# Altium schematic symbol library SparkFun-Connectors.SCHLIB: 365 symbols (part 2 of 8)
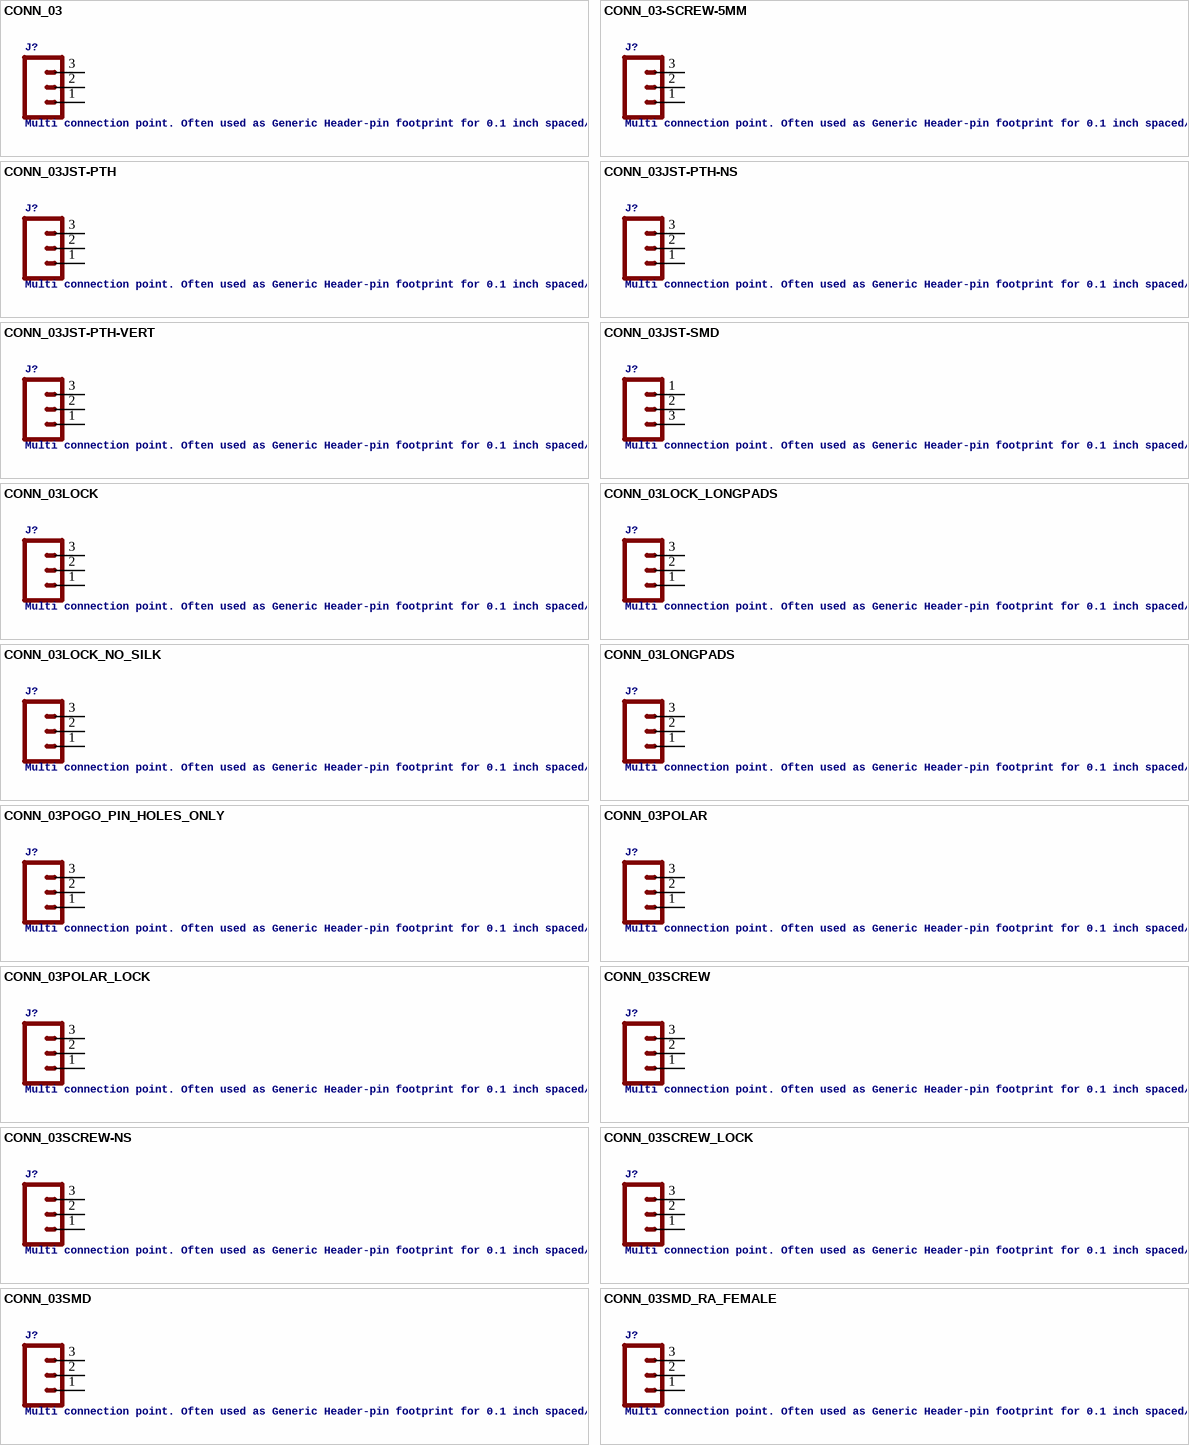
[diagram p17: symbols CONN_03 to CONN_03SMD_RA_FEMALE]

## CONN_03-SCREW-5MM
designator J?, comment Multi connection point. Often used as Generic Header-pin footprint for 0.1 inch spaced/style header connectionsOn any of the 0.1 inch spaced packages, you can populate with these: For SCREWTERMINALS and SPRING TERMINALS visit here:This device is also useful as a general connection point to wire up your design to another part of your project. Our various solder wires solder well into these plated through hole pads.Special notes:   Molex polarized connector foot print use with SKU : PRT-08232 with associated crimp pins and housings.
GateName_1: J$1; SymbolName_1: CONN_03; DeviceName: -SCREW-5MM; PROD_ID: CONN-10134; SF_SKU: PRT-08433; LibraryName: SparkFun-Connectors; DeviceSetName: CONN_03; Package: SCREWTERMINAL-5MM-3
footprint SCREWTERMINAL-5MM-3
pins: 1, 2, 3

## CONN_03JST-PTH
designator J?, comment Multi connection point. Often used as Generic Header-pin footprint for 0.1 inch spaced/style header connectionsOn any of the 0.1 inch spaced packages, you can populate with these: For SCREWTERMINALS and SPRING TERMINALS visit here:This device is also useful as a general connection point to wire up your design to another part of your project. Our various solder wires solder well into these plated through hole pads.Special notes:   Molex polarized connector foot print use with SKU : PRT-08232 with associated crimp pins and housings.
GateName_1: J$1; SymbolName_1: CONN_03; DeviceName: JST-PTH; PROD_ID: WIRE-10037; SF_ID: PRT-09915; LibraryName: SparkFun-Connectors; DeviceSetName: CONN_03; Package: JST-3-PTH
footprint JST-3-PTH
pins: 1, 2, 3

## CONN_03JST-PTH-NS
designator J?, comment Multi connection point. Often used as Generic Header-pin footprint for 0.1 inch spaced/style header connectionsOn any of the 0.1 inch spaced packages, you can populate with these: For SCREWTERMINALS and SPRING TERMINALS visit here:This device is also useful as a general connection point to wire up your design to another part of your project. Our various solder wires solder well into these plated through hole pads.Special notes:   Molex polarized connector foot print use with SKU : PRT-08232 with associated crimp pins and housings.
GateName_1: J$1; SymbolName_1: CONN_03; DeviceName: JST-PTH-NS; LibraryName: SparkFun-Connectors; DeviceSetName: CONN_03; Package: JST-3-PTH-NS
footprint JST-3-PTH-NS
pins: 1, 2, 3

## CONN_03JST-PTH-VERT
designator J?, comment Multi connection point. Often used as Generic Header-pin footprint for 0.1 inch spaced/style header connectionsOn any of the 0.1 inch spaced packages, you can populate with these: For SCREWTERMINALS and SPRING TERMINALS visit here:This device is also useful as a general connection point to wire up your design to another part of your project. Our various solder wires solder well into these plated through hole pads.Special notes:   Molex polarized connector foot print use with SKU : PRT-08232 with associated crimp pins and housings.
GateName_1: J$1; SymbolName_1: CONN_03; DeviceName: JST-PTH-VERT; PROD_ID: CONN-13230; LibraryName: SparkFun-Connectors; DeviceSetName: CONN_03; Package: JST-3-PTH-VERT
footprint JST-3-PTH-VERT
pins: 1, 2, 3

## CONN_03JST-SMD
designator J?, comment Multi connection point. Often used as Generic Header-pin footprint for 0.1 inch spaced/style header connectionsOn any of the 0.1 inch spaced packages, you can populate with these: For SCREWTERMINALS and SPRING TERMINALS visit here:This device is also useful as a general connection point to wire up your design to another part of your project. Our various solder wires solder well into these plated through hole pads.Special notes:   Molex polarized connector foot print use with SKU : PRT-08232 with associated crimp pins and housings.
GateName_1: J$1; SymbolName_1: CONN_03; DeviceName: JST-SMD; PROD_ID: CONN-12591; LibraryName: SparkFun-Connectors; DeviceSetName: CONN_03; Package: JST-3-SMD
footprint JST-3-SMD
pins: 1 3, 2, 3 1

## CONN_03LOCK
designator J?, comment Multi connection point. Often used as Generic Header-pin footprint for 0.1 inch spaced/style header connectionsOn any of the 0.1 inch spaced packages, you can populate with these: For SCREWTERMINALS and SPRING TERMINALS visit here:This device is also useful as a general connection point to wire up your design to another part of your project. Our various solder wires solder well into these plated through hole pads.Special notes:   Molex polarized connector foot print use with SKU : PRT-08232 with associated crimp pins and housings.
GateName_1: J$1; SymbolName_1: CONN_03; DeviceName: LOCK; LibraryName: SparkFun-Connectors; DeviceSetName: CONN_03; Package: 1X03_LOCK
footprint 1X03_LOCK
pins: 1, 2, 3

## CONN_03LOCK_LONGPADS
designator J?, comment Multi connection point. Often used as Generic Header-pin footprint for 0.1 inch spaced/style header connectionsOn any of the 0.1 inch spaced packages, you can populate with these: For SCREWTERMINALS and SPRING TERMINALS visit here:This device is also useful as a general connection point to wire up your design to another part of your project. Our various solder wires solder well into these plated through hole pads.Special notes:   Molex polarized connector foot print use with SKU : PRT-08232 with associated crimp pins and housings.
GateName_1: J$1; SymbolName_1: CONN_03; DeviceName: LOCK_LONGPADS; LibraryName: SparkFun-Connectors; DeviceSetName: CONN_03; Package: 1X03_LOCK_LONGPADS
footprint 1X03_LOCK_LONGPADS
pins: 1, 2, 3

## CONN_03LOCK_NO_SILK
designator J?, comment Multi connection point. Often used as Generic Header-pin footprint for 0.1 inch spaced/style header connectionsOn any of the 0.1 inch spaced packages, you can populate with these: For SCREWTERMINALS and SPRING TERMINALS visit here:This device is also useful as a general connection point to wire up your design to another part of your project. Our various solder wires solder well into these plated through hole pads.Special notes:   Molex polarized connector foot print use with SKU : PRT-08232 with associated crimp pins and housings.
GateName_1: J$1; SymbolName_1: CONN_03; DeviceName: LOCK_NO_SILK; LibraryName: SparkFun-Connectors; DeviceSetName: CONN_03; Package: 1X03_LOCK_NO_SILK
footprint 1X03_LOCK_NO_SILK
pins: 1, 2, 3

## CONN_03LONGPADS
designator J?, comment Multi connection point. Often used as Generic Header-pin footprint for 0.1 inch spaced/style header connectionsOn any of the 0.1 inch spaced packages, you can populate with these: For SCREWTERMINALS and SPRING TERMINALS visit here:This device is also useful as a general connection point to wire up your design to another part of your project. Our various solder wires solder well into these plated through hole pads.Special notes:   Molex polarized connector foot print use with SKU : PRT-08232 with associated crimp pins and housings.
GateName_1: J$1; SymbolName_1: CONN_03; DeviceName: LONGPADS; LibraryName: SparkFun-Connectors; DeviceSetName: CONN_03; Package: 1X03_LONGPADS
footprint 1X03_LONGPADS
pins: 1, 2, 3

## CONN_03POGO_PIN_HOLES_ONLY
designator J?, comment Multi connection point. Often used as Generic Header-pin footprint for 0.1 inch spaced/style header connectionsOn any of the 0.1 inch spaced packages, you can populate with these: For SCREWTERMINALS and SPRING TERMINALS visit here:This device is also useful as a general connection point to wire up your design to another part of your project. Our various solder wires solder well into these plated through hole pads.Special notes:   Molex polarized connector foot print use with SKU : PRT-08232 with associated crimp pins and housings.
GateName_1: J$1; SymbolName_1: CONN_03; DeviceName: POGO_PIN_HOLES_ONLY; LibraryName: SparkFun-Connectors; DeviceSetName: CONN_03; Package: 1X03_PP_HOLES_ONLY
footprint 1X03_PP_HOLES_ONLY
pins: 1, 2, 3

## CONN_03POLAR
designator J?, comment Multi connection point. Often used as Generic Header-pin footprint for 0.1 inch spaced/style header connectionsOn any of the 0.1 inch spaced packages, you can populate with these: For SCREWTERMINALS and SPRING TERMINALS visit here:This device is also useful as a general connection point to wire up your design to another part of your project. Our various solder wires solder well into these plated through hole pads.Special notes:   Molex polarized connector foot print use with SKU : PRT-08232 with associated crimp pins and housings.
GateName_1: J$1; SymbolName_1: CONN_03; DeviceName: POLAR; PROD_ID: CONN-08625; SF_ID: PRT-08096; LibraryName: SparkFun-Connectors; DeviceSetName: CONN_03; Package: MOLEX-1X3
footprint MOLEX-1X3
pins: 1, 2, 3

## CONN_03POLAR_LOCK
designator J?, comment Multi connection point. Often used as Generic Header-pin footprint for 0.1 inch spaced/style header connectionsOn any of the 0.1 inch spaced packages, you can populate with these: For SCREWTERMINALS and SPRING TERMINALS visit here:This device is also useful as a general connection point to wire up your design to another part of your project. Our various solder wires solder well into these plated through hole pads.Special notes:   Molex polarized connector foot print use with SKU : PRT-08232 with associated crimp pins and housings.
GateName_1: J$1; SymbolName_1: CONN_03; DeviceName: POLAR_LOCK; PROD_ID: CONN-08625; SF_ID: PRT-08096; LibraryName: SparkFun-Connectors; DeviceSetName: CONN_03; Package: MOLEX-1X3_LOCK
footprint MOLEX-1X3_LOCK
pins: 1, 2, 3

## CONN_03SCREW
designator J?, comment Multi connection point. Often used as Generic Header-pin footprint for 0.1 inch spaced/style header connectionsOn any of the 0.1 inch spaced packages, you can populate with these: For SCREWTERMINALS and SPRING TERMINALS visit here:This device is also useful as a general connection point to wire up your design to another part of your project. Our various solder wires solder well into these plated through hole pads.Special notes:   Molex polarized connector foot print use with SKU : PRT-08232 with associated crimp pins and housings.
GateName_1: J$1; SymbolName_1: CONN_03; DeviceName: SCREW; PROD_ID: CONN-08288; SF_ID: PRT-08235; LibraryName: SparkFun-Connectors; DeviceSetName: CONN_03; Package: SCREWTERMINAL-3.5MM-3
footprint SCREWTERMINAL-3.5MM-3
pins: 1, 2, 3

## CONN_03SCREW-NS
designator J?, comment Multi connection point. Often used as Generic Header-pin footprint for 0.1 inch spaced/style header connectionsOn any of the 0.1 inch spaced packages, you can populate with these: For SCREWTERMINALS and SPRING TERMINALS visit here:This device is also useful as a general connection point to wire up your design to another part of your project. Our various solder wires solder well into these plated through hole pads.Special notes:   Molex polarized connector foot print use with SKU : PRT-08232 with associated crimp pins and housings.
GateName_1: J$1; SymbolName_1: CONN_03; DeviceName: SCREW-NS; LibraryName: SparkFun-Connectors; DeviceSetName: CONN_03; Package: SCREWTERMINAL-3.5MM-3-NS
footprint SCREWTERMINAL-3.5MM-3-NS
pins: 1, 2, 3

## CONN_03SCREW_LOCK
designator J?, comment Multi connection point. Often used as Generic Header-pin footprint for 0.1 inch spaced/style header connectionsOn any of the 0.1 inch spaced packages, you can populate with these: For SCREWTERMINALS and SPRING TERMINALS visit here:This device is also useful as a general connection point to wire up your design to another part of your project. Our various solder wires solder well into these plated through hole pads.Special notes:   Molex polarized connector foot print use with SKU : PRT-08232 with associated crimp pins and housings.
GateName_1: J$1; SymbolName_1: CONN_03; DeviceName: SCREW_LOCK; PROD_ID: CONN-08288; SF_ID: PRT-08235; LibraryName: SparkFun-Connectors; DeviceSetName: CONN_03; Package: SCREWTERMINAL-3.5MM-3_LOCK.007S
footprint SCREWTERMINAL-3.5MM-3_LOCK.007S
pins: 1, 2, 3

## CONN_03SMD
designator J?, comment Multi connection point. Often used as Generic Header-pin footprint for 0.1 inch spaced/style header connectionsOn any of the 0.1 inch spaced packages, you can populate with these: For SCREWTERMINALS and SPRING TERMINALS visit here:This device is also useful as a general connection point to wire up your design to another part of your project. Our various solder wires solder well into these plated through hole pads.Special notes:   Molex polarized connector foot print use with SKU : PRT-08232 with associated crimp pins and housings.
GateName_1: J$1; SymbolName_1: CONN_03; DeviceName: SMD; LibraryName: SparkFun-Connectors; DeviceSetName: CONN_03; Package: 1X03-1MM-RA
footprint 1X03-1MM-RA
pins: 1, 2, 3

## CONN_03SMD_RA_FEMALE
designator J?, comment Multi connection point. Often used as Generic Header-pin footprint for 0.1 inch spaced/style header connectionsOn any of the 0.1 inch spaced packages, you can populate with these: For SCREWTERMINALS and SPRING TERMINALS visit here:This device is also useful as a general connection point to wire up your design to another part of your project. Our various solder wires solder well into these plated through hole pads.Special notes:   Molex polarized connector foot print use with SKU : PRT-08232 with associated crimp pins and housings.
GateName_1: J$1; SymbolName_1: CONN_03; DeviceName: SMD_RA_FEMALE; PROD_ID: CONN-10926; LibraryName: SparkFun-Connectors; DeviceSetName: CONN_03; Package: 1X03_SMD_RA_FEMALE
footprint 1X03_SMD_RA_FEMALE
pins: 1, 2, 3

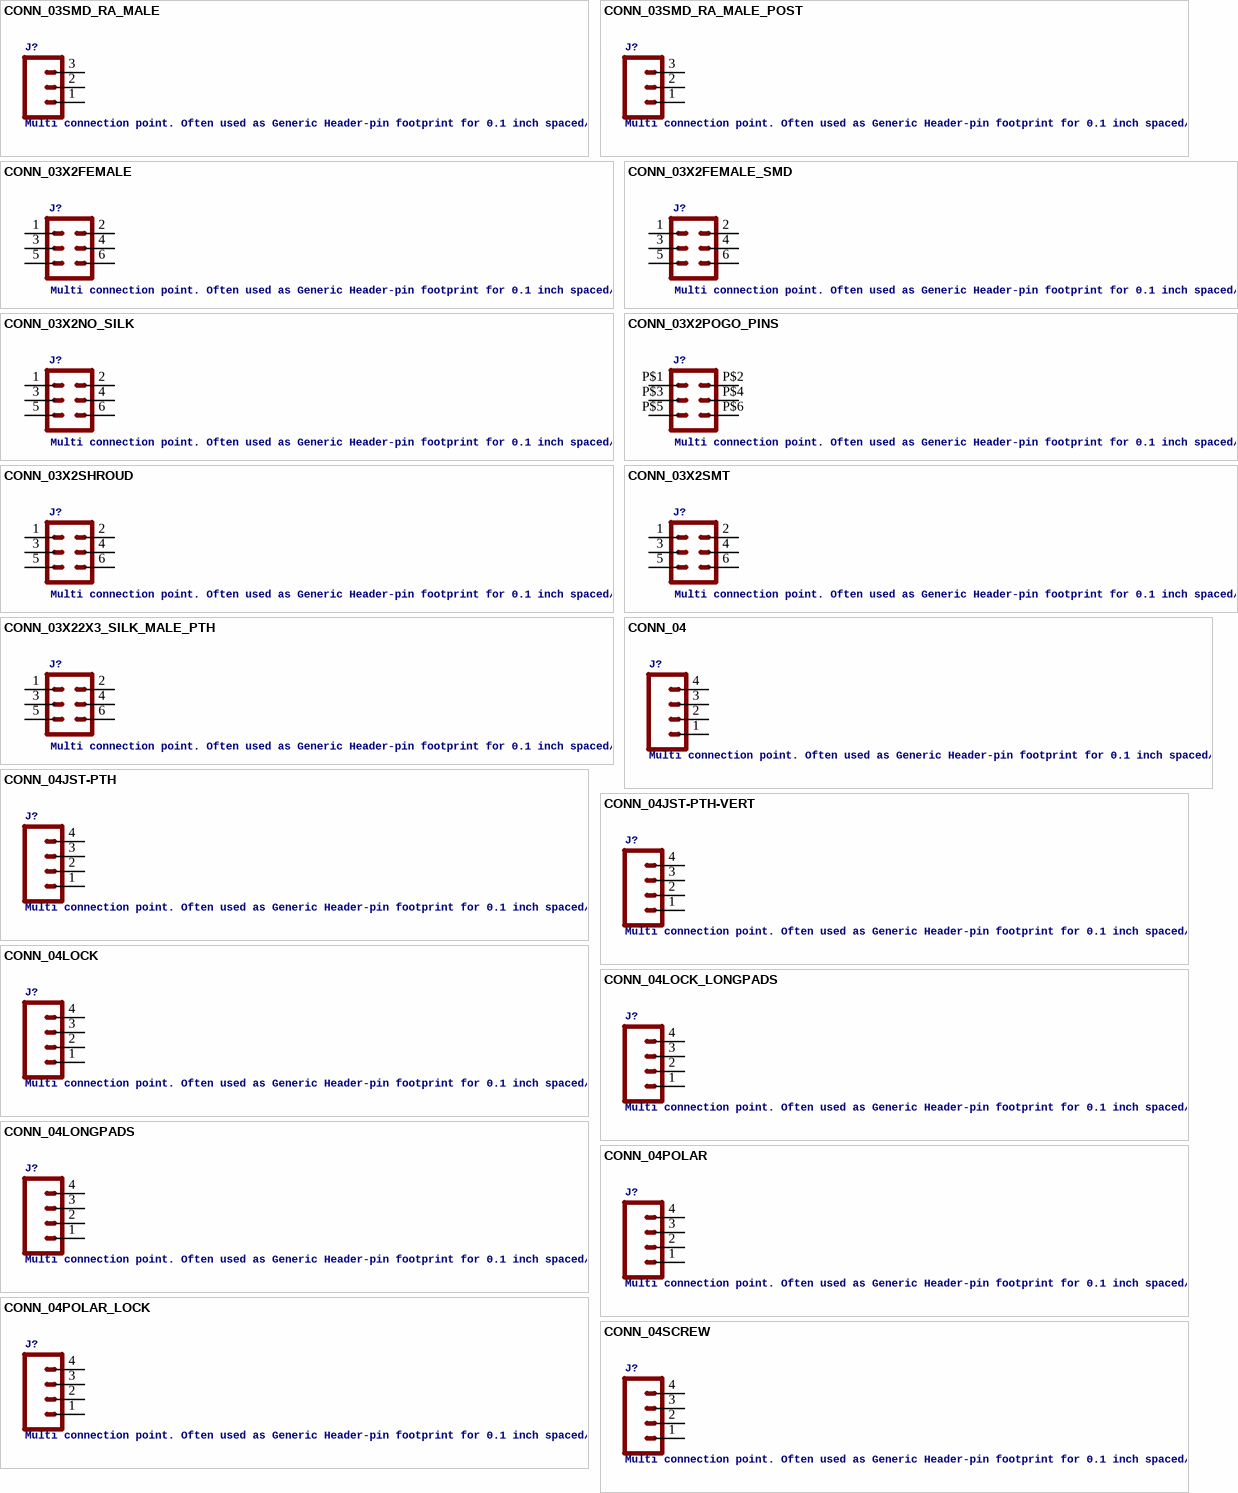
[diagram p4: symbols CONN_03SMD_RA_MALE to CONN_04SCREW]

## CONN_03SMD_RA_MALE
designator J?, comment Multi connection point. Often used as Generic Header-pin footprint for 0.1 inch spaced/style header connectionsOn any of the 0.1 inch spaced packages, you can populate with these: For SCREWTERMINALS and SPRING TERMINALS visit here:This device is also useful as a general connection point to wire up your design to another part of your project. Our various solder wires solder well into these plated through hole pads.Special notes:   Molex polarized connector foot print use with SKU : PRT-08232 with associated crimp pins and housings.
GateName_1: J$1; SymbolName_1: CONN_03; DeviceName: SMD_RA_MALE; PROD_ID: CONN-10925; LibraryName: SparkFun-Connectors; DeviceSetName: CONN_03; Package: 1X03_SMD_RA_MALE
footprint 1X03_SMD_RA_MALE
pins: 1, 2, 3

## CONN_03SMD_RA_MALE_POST
designator J?, comment Multi connection point. Often used as Generic Header-pin footprint for 0.1 inch spaced/style header connectionsOn any of the 0.1 inch spaced packages, you can populate with these: For SCREWTERMINALS and SPRING TERMINALS visit here:This device is also useful as a general connection point to wire up your design to another part of your project. Our various solder wires solder well into these plated through hole pads.Special notes:   Molex polarized connector foot print use with SKU : PRT-08232 with associated crimp pins and housings.
GateName_1: J$1; SymbolName_1: CONN_03; DeviceName: SMD_RA_MALE_POST; LibraryName: SparkFun-Connectors; DeviceSetName: CONN_03; Package: 1X03_SMD_RA_MALE_POST
footprint 1X03_SMD_RA_MALE_POST
pins: 1, 2, 3

## CONN_03X2FEMALE
designator J?, comment Multi connection point. Often used as Generic Header-pin footprint for 0.1 inch spaced/style header connectionsYou can populate with any combo of single row headers, but if you'd like an exact match, check these:On any of the 0.1 inch spaced packages, you can populate with these:Special note: the shrouded connector mates well with our 3x2 ribbon cables:
GateName_1: G$1; SymbolName_1: CONN_03X2; DeviceName: FEMALE; PROD_ID: CONN-11566; LibraryName: SparkFun-Connectors; DeviceSetName: CONN_03X2; Package: 2X3
footprint 2X3
pins: 1, 2, 3, 4, 5, 6

## CONN_03X2FEMALE_SMD
designator J?, comment Multi connection point. Often used as Generic Header-pin footprint for 0.1 inch spaced/style header connectionsYou can populate with any combo of single row headers, but if you'd like an exact match, check these:On any of the 0.1 inch spaced packages, you can populate with these:Special note: the shrouded connector mates well with our 3x2 ribbon cables:
GateName_1: G$1; SymbolName_1: CONN_03X2; DeviceName: FEMALE_SMD; PROD_ID: CONN-11290; LibraryName: SparkFun-Connectors; DeviceSetName: CONN_03X2; Package: 2X3_SMD
footprint 2X3_SMD
pins: 1, 2, 3, 4, 5, 6

## CONN_03X2NO_SILK
designator J?, comment Multi connection point. Often used as Generic Header-pin footprint for 0.1 inch spaced/style header connectionsYou can populate with any combo of single row headers, but if you'd like an exact match, check these:On any of the 0.1 inch spaced packages, you can populate with these:Special note: the shrouded connector mates well with our 3x2 ribbon cables:
GateName_1: G$1; SymbolName_1: CONN_03X2; DeviceName: NO_SILK; LibraryName: SparkFun-Connectors; DeviceSetName: CONN_03X2; Package: 2X3-NS
footprint 2X3-NS
pins: 1, 2, 3, 4, 5, 6

## CONN_03X2POGO_PINS
designator J?, comment Multi connection point. Often used as Generic Header-pin footprint for 0.1 inch spaced/style header connectionsYou can populate with any combo of single row headers, but if you'd like an exact match, check these:On any of the 0.1 inch spaced packages, you can populate with these:Special note: the shrouded connector mates well with our 3x2 ribbon cables:
GateName_1: G$1; SymbolName_1: CONN_03X2; DeviceName: POGO_PINS; PROD_ID: HW-11044; LibraryName: SparkFun-Connectors; DeviceSetName: CONN_03X2; Package: 2X3_POGO
footprint 2X3_POGO
pins: P$1 1, P$2 2, P$3 3, P$4 4, P$5 5, P$6 6

## CONN_03X2SHROUD
designator J?, comment Multi connection point. Often used as Generic Header-pin footprint for 0.1 inch spaced/style header connectionsYou can populate with any combo of single row headers, but if you'd like an exact match, check these:On any of the 0.1 inch spaced packages, you can populate with these:Special note: the shrouded connector mates well with our 3x2 ribbon cables:
GateName_1: G$1; SymbolName_1: CONN_03X2; DeviceName: SHROUD; PROD_ID: CONN-10681; SF_ID: PRT_10877; LibraryName: SparkFun-Connectors; DeviceSetName: CONN_03X2; Package: 2X3-SHROUDED
footprint 2X3-SHROUDED
pins: 1, 2, 3, 4, 5, 6

## CONN_03X2SMT
designator J?, comment Multi connection point. Often used as Generic Header-pin footprint for 0.1 inch spaced/style header connectionsYou can populate with any combo of single row headers, but if you'd like an exact match, check these:On any of the 0.1 inch spaced packages, you can populate with these:Special note: the shrouded connector mates well with our 3x2 ribbon cables:
GateName_1: G$1; SymbolName_1: CONN_03X2; DeviceName: SMT; PROD_ID: CONN-11415; LibraryName: SparkFun-Connectors; DeviceSetName: CONN_03X2; Package: 2X3_SMT_POSTS
footprint 2X3_SMT_POSTS
pins: 1, 2, 3, 4, 5, 6

## CONN_03X22X3_SILK_MALE_PTH
designator J?, comment Multi connection point. Often used as Generic Header-pin footprint for 0.1 inch spaced/style header connectionsYou can populate with any combo of single row headers, but if you'd like an exact match, check these:On any of the 0.1 inch spaced packages, you can populate with these:Special note: the shrouded connector mates well with our 3x2 ribbon cables:
GateName_1: G$1; SymbolName_1: CONN_03X2; DeviceName: 2X3_SILK_MALE_PTH; PROD_ID: CONN-09701; LibraryName: SparkFun-Connectors; DeviceSetName: CONN_03X2; Package: 2X3
footprint 2X3
pins: 1, 2, 3, 4, 5, 6

## CONN_04
designator J?, comment Multi connection point. Often used as Generic Header-pin footprint for 0.1 inch spaced/style header connectionsOn any of the 0.1 inch spaced packages, you can populate with these: For SCREWTERMINALS and SPRING TERMINALS visit here:This device is also useful as a general connection point to wire up your design to another part of your project. Our various solder wires solder well into these plated through hole pads.Special notes:  Molex polarized connector foot print use with SKU : PRT-08231 with associated crimp pins and housings. 1MM SMD Version SKU: PRT-10208
GateName_1: G$1; SymbolName_1: CONN_04; PROD_ID: CONN-09696; LibraryName: SparkFun-Connectors; DeviceSetName: CONN_04; Package: 1X04
footprint 1X04
pins: 1, 2, 3, 4

## CONN_04JST-PTH
designator J?, comment Multi connection point. Often used as Generic Header-pin footprint for 0.1 inch spaced/style header connectionsOn any of the 0.1 inch spaced packages, you can populate with these: For SCREWTERMINALS and SPRING TERMINALS visit here:This device is also useful as a general connection point to wire up your design to another part of your project. Our various solder wires solder well into these plated through hole pads.Special notes:  Molex polarized connector foot print use with SKU : PRT-08231 with associated crimp pins and housings. 1MM SMD Version SKU: PRT-10208
GateName_1: G$1; SymbolName_1: CONN_04; DeviceName: JST-PTH; PROD_ID: WIRE-13531; SF_ID: PRT-09916; LibraryName: SparkFun-Connectors; DeviceSetName: CONN_04; Package: JST-4-PTH
footprint JST-4-PTH
pins: 1, 2, 3, 4

## CONN_04JST-PTH-VERT
designator J?, comment Multi connection point. Often used as Generic Header-pin footprint for 0.1 inch spaced/style header connectionsOn any of the 0.1 inch spaced packages, you can populate with these: For SCREWTERMINALS and SPRING TERMINALS visit here:This device is also useful as a general connection point to wire up your design to another part of your project. Our various solder wires solder well into these plated through hole pads.Special notes:  Molex polarized connector foot print use with SKU : PRT-08231 with associated crimp pins and housings. 1MM SMD Version SKU: PRT-10208
GateName_1: G$1; SymbolName_1: CONN_04; DeviceName: JST-PTH-VERT; PROD_ID: CONN-13251; LibraryName: SparkFun-Connectors; DeviceSetName: CONN_04; Package: JST-4-PTH-VERT
footprint JST-4-PTH-VERT
pins: 1, 2, 3, 4

## CONN_04LOCK
designator J?, comment Multi connection point. Often used as Generic Header-pin footprint for 0.1 inch spaced/style header connectionsOn any of the 0.1 inch spaced packages, you can populate with these: For SCREWTERMINALS and SPRING TERMINALS visit here:This device is also useful as a general connection point to wire up your design to another part of your project. Our various solder wires solder well into these plated through hole pads.Special notes:  Molex polarized connector foot print use with SKU : PRT-08231 with associated crimp pins and housings. 1MM SMD Version SKU: PRT-10208
GateName_1: G$1; SymbolName_1: CONN_04; DeviceName: LOCK; PROD_ID: CONN-09696; LibraryName: SparkFun-Connectors; DeviceSetName: CONN_04; Package: 1X04_LOCK
footprint 1X04_LOCK
pins: 1, 2, 3, 4

## CONN_04LOCK_LONGPADS
designator J?, comment Multi connection point. Often used as Generic Header-pin footprint for 0.1 inch spaced/style header connectionsOn any of the 0.1 inch spaced packages, you can populate with these: For SCREWTERMINALS and SPRING TERMINALS visit here:This device is also useful as a general connection point to wire up your design to another part of your project. Our various solder wires solder well into these plated through hole pads.Special notes:  Molex polarized connector foot print use with SKU : PRT-08231 with associated crimp pins and housings. 1MM SMD Version SKU: PRT-10208
GateName_1: G$1; SymbolName_1: CONN_04; DeviceName: LOCK_LONGPADS; PROD_ID: CONN-09696; LibraryName: SparkFun-Connectors; DeviceSetName: CONN_04; Package: 1X04_LOCK_LONGPADS
footprint 1X04_LOCK_LONGPADS
pins: 1, 2, 3, 4

## CONN_04LONGPADS
designator J?, comment Multi connection point. Often used as Generic Header-pin footprint for 0.1 inch spaced/style header connectionsOn any of the 0.1 inch spaced packages, you can populate with these: For SCREWTERMINALS and SPRING TERMINALS visit here:This device is also useful as a general connection point to wire up your design to another part of your project. Our various solder wires solder well into these plated through hole pads.Special notes:  Molex polarized connector foot print use with SKU : PRT-08231 with associated crimp pins and housings. 1MM SMD Version SKU: PRT-10208
GateName_1: G$1; SymbolName_1: CONN_04; DeviceName: LONGPADS; PROD_ID: CONN-09696; LibraryName: SparkFun-Connectors; DeviceSetName: CONN_04; Package: 1X04_LONGPADS
footprint 1X04_LONGPADS
pins: 1, 2, 3, 4

## CONN_04POLAR
designator J?, comment Multi connection point. Often used as Generic Header-pin footprint for 0.1 inch spaced/style header connectionsOn any of the 0.1 inch spaced packages, you can populate with these: For SCREWTERMINALS and SPRING TERMINALS visit here:This device is also useful as a general connection point to wire up your design to another part of your project. Our various solder wires solder well into these plated through hole pads.Special notes:  Molex polarized connector foot print use with SKU : PRT-08231 with associated crimp pins and housings. 1MM SMD Version SKU: PRT-10208
GateName_1: G$1; SymbolName_1: CONN_04; DeviceName: POLAR; PROD_ID: CONN-08186; LibraryName: SparkFun-Connectors; DeviceSetName: CONN_04; Package: MOLEX-1X4; SF_ID: PRT-08231
footprint MOLEX-1X4
pins: 1, 2, 3, 4

## CONN_04POLAR_LOCK
designator J?, comment Multi connection point. Often used as Generic Header-pin footprint for 0.1 inch spaced/style header connectionsOn any of the 0.1 inch spaced packages, you can populate with these: For SCREWTERMINALS and SPRING TERMINALS visit here:This device is also useful as a general connection point to wire up your design to another part of your project. Our various solder wires solder well into these plated through hole pads.Special notes:  Molex polarized connector foot print use with SKU : PRT-08231 with associated crimp pins and housings. 1MM SMD Version SKU: PRT-10208
GateName_1: G$1; SymbolName_1: CONN_04; DeviceName: POLAR_LOCK; PROD_ID: CONN-08186; LibraryName: SparkFun-Connectors; DeviceSetName: CONN_04; Package: MOLEX-1X4_LOCK; SF_ID: PRT-08231
footprint MOLEX-1X4_LOCK
pins: 1, 2, 3, 4

## CONN_04SCREW
designator J?, comment Multi connection point. Often used as Generic Header-pin footprint for 0.1 inch spaced/style header connectionsOn any of the 0.1 inch spaced packages, you can populate with these: For SCREWTERMINALS and SPRING TERMINALS visit here:This device is also useful as a general connection point to wire up your design to another part of your project. Our various solder wires solder well into these plated through hole pads.Special notes:  Molex polarized connector foot print use with SKU : PRT-08231 with associated crimp pins and housings. 1MM SMD Version SKU: PRT-10208
GateName_1: G$1; SymbolName_1: CONN_04; DeviceName: SCREW; PROD_ID: 2xCONN-08399; SF_ID: 2xPRT-08084; LibraryName: SparkFun-Connectors; DeviceSetName: CONN_04; Package: SCREWTERMINAL-3.5MM-4
footprint SCREWTERMINAL-3.5MM-4
pins: 1, 2, 3, 4

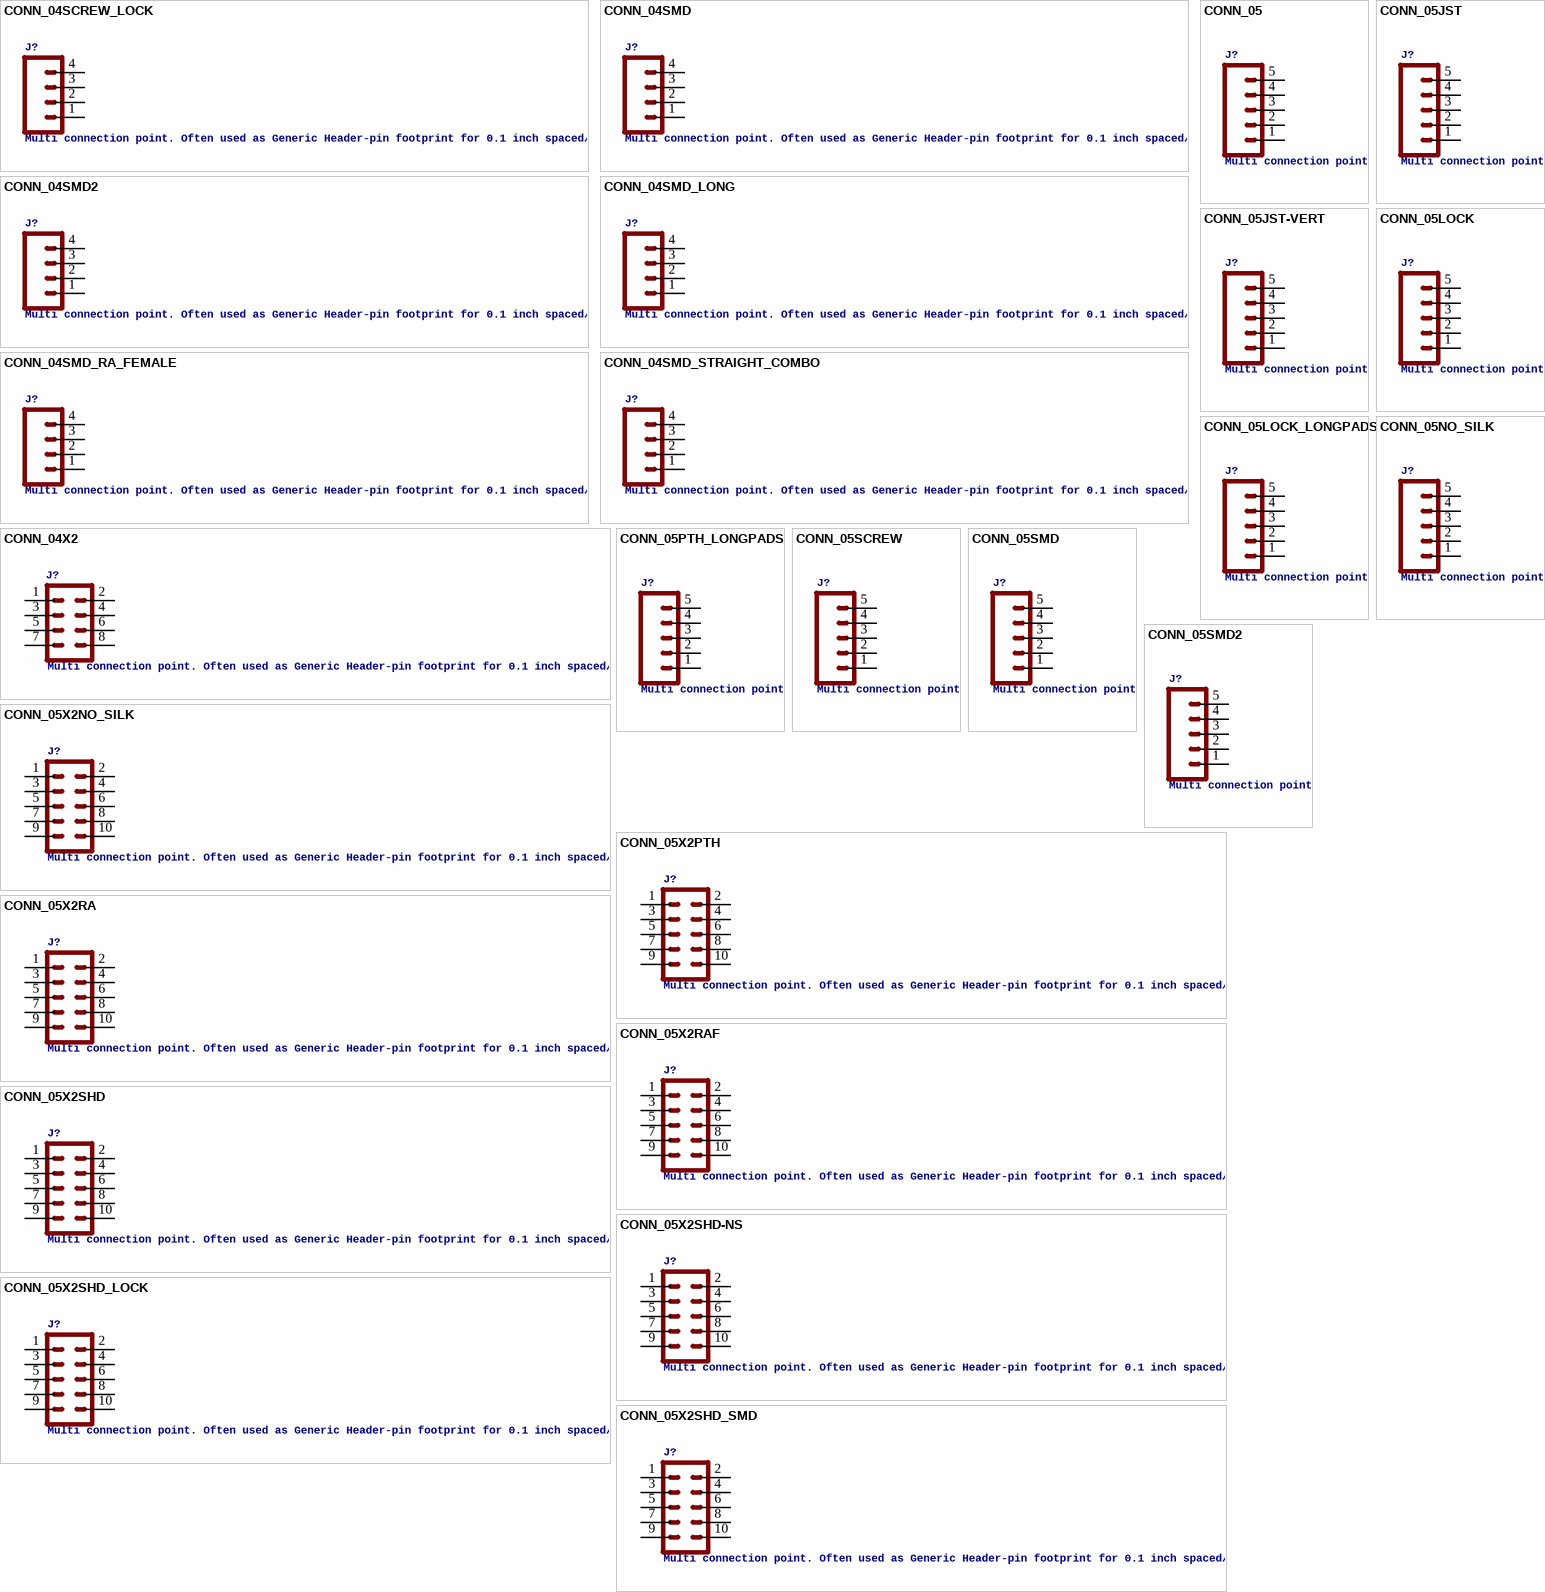
[diagram p5: symbols CONN_04SCREW_LOCK to CONN_05X2SHD_SMD]

## CONN_04SCREW_LOCK
designator J?, comment Multi connection point. Often used as Generic Header-pin footprint for 0.1 inch spaced/style header connectionsOn any of the 0.1 inch spaced packages, you can populate with these: For SCREWTERMINALS and SPRING TERMINALS visit here:This device is also useful as a general connection point to wire up your design to another part of your project. Our various solder wires solder well into these plated through hole pads.Special notes:  Molex polarized connector foot print use with SKU : PRT-08231 with associated crimp pins and housings. 1MM SMD Version SKU: PRT-10208
GateName_1: G$1; SymbolName_1: CONN_04; DeviceName: SCREW_LOCK; LibraryName: SparkFun-Connectors; DeviceSetName: CONN_04; Package: SCREWTERMINAL-3.5MM-4_LOCK
footprint SCREWTERMINAL-3.5MM-4_LOCK
pins: 1, 2, 3, 4

## CONN_04SMD
designator J?, comment Multi connection point. Often used as Generic Header-pin footprint for 0.1 inch spaced/style header connectionsOn any of the 0.1 inch spaced packages, you can populate with these: For SCREWTERMINALS and SPRING TERMINALS visit here:This device is also useful as a general connection point to wire up your design to another part of your project. Our various solder wires solder well into these plated through hole pads.Special notes:  Molex polarized connector foot print use with SKU : PRT-08231 with associated crimp pins and housings. 1MM SMD Version SKU: PRT-10208
GateName_1: G$1; SymbolName_1: CONN_04; PROD_ID: CONN-09140; SF_ID: PRT-12638; DeviceName: SMD; LibraryName: SparkFun-Connectors; DeviceSetName: CONN_04; Package: 1X04_SMD_RA_MALE
footprint 1X04_SMD_RA_MALE
pins: 1, 2, 3, 4

## CONN_04SMD2
designator J?, comment Multi connection point. Often used as Generic Header-pin footprint for 0.1 inch spaced/style header connectionsOn any of the 0.1 inch spaced packages, you can populate with these: For SCREWTERMINALS and SPRING TERMINALS visit here:This device is also useful as a general connection point to wire up your design to another part of your project. Our various solder wires solder well into these plated through hole pads.Special notes:  Molex polarized connector foot print use with SKU : PRT-08231 with associated crimp pins and housings. 1MM SMD Version SKU: PRT-10208
GateName_1: G$1; SymbolName_1: CONN_04; DeviceName: SMD2; PROD_ID: CONN-10310; LibraryName: SparkFun-Connectors; DeviceSetName: CONN_04; Package: 1X04_1MM_RA; SF_ID: PRT-10208
footprint 1X04_1MM_RA
pins: 1, 2, 3, 4

## CONN_04SMD_LONG
designator J?, comment Multi connection point. Often used as Generic Header-pin footprint for 0.1 inch spaced/style header connectionsOn any of the 0.1 inch spaced packages, you can populate with these: For SCREWTERMINALS and SPRING TERMINALS visit here:This device is also useful as a general connection point to wire up your design to another part of your project. Our various solder wires solder well into these plated through hole pads.Special notes:  Molex polarized connector foot print use with SKU : PRT-08231 with associated crimp pins and housings. 1MM SMD Version SKU: PRT-10208
GateName_1: G$1; SymbolName_1: CONN_04; DeviceName: SMD_LONG; PROD_ID: CONN-09140; SF_ID: PRT-12638; LibraryName: SparkFun-Connectors; DeviceSetName: CONN_04; Package: 1X04_SMD_LONG
footprint 1X04_SMD_LONG
pins: 1, 2, 3, 4

## CONN_04SMD_RA_FEMALE
designator J?, comment Multi connection point. Often used as Generic Header-pin footprint for 0.1 inch spaced/style header connectionsOn any of the 0.1 inch spaced packages, you can populate with these: For SCREWTERMINALS and SPRING TERMINALS visit here:This device is also useful as a general connection point to wire up your design to another part of your project. Our various solder wires solder well into these plated through hole pads.Special notes:  Molex polarized connector foot print use with SKU : PRT-08231 with associated crimp pins and housings. 1MM SMD Version SKU: PRT-10208
GateName_1: G$1; SymbolName_1: CONN_04; DeviceName: SMD_RA_FEMALE; PROD_ID: CONN-12382; LibraryName: SparkFun-Connectors; DeviceSetName: CONN_04; Package: 1X04_SMD_RA_FEMALE
footprint 1X04_SMD_RA_FEMALE
pins: 1, 2, 3, 4

## CONN_04SMD_STRAIGHT_COMBO
designator J?, comment Multi connection point. Often used as Generic Header-pin footprint for 0.1 inch spaced/style header connectionsOn any of the 0.1 inch spaced packages, you can populate with these: For SCREWTERMINALS and SPRING TERMINALS visit here:This device is also useful as a general connection point to wire up your design to another part of your project. Our various solder wires solder well into these plated through hole pads.Special notes:  Molex polarized connector foot print use with SKU : PRT-08231 with associated crimp pins and housings. 1MM SMD Version SKU: PRT-10208
GateName_1: G$1; SymbolName_1: CONN_04; DeviceName: SMD_STRAIGHT_COMBO; PROD_ID: CONN-08511; LibraryName: SparkFun-Connectors; DeviceSetName: CONN_04; Package: 1X04_SMD_VERTICAL_COMBO
footprint 1X04_SMD_VERTICAL_COMBO
pins: 1, 2, 3, 4

## CONN_04X2
designator J?, comment Multi connection point. Often used as Generic Header-pin footprint for 0.1 inch spaced/style header connectionsOn any of the 0.1 inch spaced packages, you can populate with these:
GateName_1: G$1; SymbolName_1: CONN_04X2; LibraryName: SparkFun-Connectors; DeviceSetName: CONN_04X2; Package: 2X4
footprint 2X4
pins: 1, 2, 3, 4, 5, 6, 7, 8

## CONN_05
designator J?, comment Multi connection point. Often used as Generic Header-pin footprint for 0.1 inch spaced/style header connectionsOn any of the 0.1 inch spaced packages, you can populate with these: For SCREWTERMINALS and SPRING TERMINALS visit here:This device is also useful as a general connection point to wire up your design to another part of your project. Our various solder wires solder well into these plated through hole pads.Special notes:  Molex polarized connector foot print use with SKU : PRT-08231 with associated crimp pins and housings. 1MM SMD Version SKU: PRT-10208
GateName_1: G$1; SymbolName_1: CONN_05; LibraryName: SparkFun-Connectors; DeviceSetName: CONN_05; Package: 1X05
footprint 1X05
pins: 1, 2, 3, 4, 5

## CONN_05JST
designator J?, comment Multi connection point. Often used as Generic Header-pin footprint for 0.1 inch spaced/style header connectionsOn any of the 0.1 inch spaced packages, you can populate with these: For SCREWTERMINALS and SPRING TERMINALS visit here:This device is also useful as a general connection point to wire up your design to another part of your project. Our various solder wires solder well into these plated through hole pads.Special notes:  Molex polarized connector foot print use with SKU : PRT-08231 with associated crimp pins and housings. 1MM SMD Version SKU: PRT-10208
GateName_1: G$1; SymbolName_1: CONN_05; DeviceName: JST; SF_ID: PRT-09917; LibraryName: SparkFun-Connectors; DeviceSetName: CONN_05; Package: JST-5-PTH
footprint JST-5-PTH
pins: 1, 2, 3, 4, 5

## CONN_05JST-VERT
designator J?, comment Multi connection point. Often used as Generic Header-pin footprint for 0.1 inch spaced/style header connectionsOn any of the 0.1 inch spaced packages, you can populate with these: For SCREWTERMINALS and SPRING TERMINALS visit here:This device is also useful as a general connection point to wire up your design to another part of your project. Our various solder wires solder well into these plated through hole pads.Special notes:  Molex polarized connector foot print use with SKU : PRT-08231 with associated crimp pins and housings. 1MM SMD Version SKU: PRT-10208
GateName_1: G$1; SymbolName_1: CONN_05; DeviceName: JST-VERT; LibraryName: SparkFun-Connectors; DeviceSetName: CONN_05; Package: JST-5-PTH-VERT
footprint JST-5-PTH-VERT
pins: 1, 2, 3, 4, 5

## CONN_05LOCK
designator J?, comment Multi connection point. Often used as Generic Header-pin footprint for 0.1 inch spaced/style header connectionsOn any of the 0.1 inch spaced packages, you can populate with these: For SCREWTERMINALS and SPRING TERMINALS visit here:This device is also useful as a general connection point to wire up your design to another part of your project. Our various solder wires solder well into these plated through hole pads.Special notes:  Molex polarized connector foot print use with SKU : PRT-08231 with associated crimp pins and housings. 1MM SMD Version SKU: PRT-10208
GateName_1: G$1; SymbolName_1: CONN_05; DeviceName: LOCK; LibraryName: SparkFun-Connectors; DeviceSetName: CONN_05; Package: 1X05_LOCK
footprint 1X05_LOCK
pins: 1, 2, 3, 4, 5

## CONN_05LOCK_LONGPADS
designator J?, comment Multi connection point. Often used as Generic Header-pin footprint for 0.1 inch spaced/style header connectionsOn any of the 0.1 inch spaced packages, you can populate with these: For SCREWTERMINALS and SPRING TERMINALS visit here:This device is also useful as a general connection point to wire up your design to another part of your project. Our various solder wires solder well into these plated through hole pads.Special notes:  Molex polarized connector foot print use with SKU : PRT-08231 with associated crimp pins and housings. 1MM SMD Version SKU: PRT-10208
GateName_1: G$1; SymbolName_1: CONN_05; DeviceName: LOCK_LONGPADS; LibraryName: SparkFun-Connectors; DeviceSetName: CONN_05; Package: 1X05_LOCK_LONGPADS
footprint 1X05_LOCK_LONGPADS
pins: 1, 2, 3, 4, 5

## CONN_05NO_SILK
designator J?, comment Multi connection point. Often used as Generic Header-pin footprint for 0.1 inch spaced/style header connectionsOn any of the 0.1 inch spaced packages, you can populate with these: For SCREWTERMINALS and SPRING TERMINALS visit here:This device is also useful as a general connection point to wire up your design to another part of your project. Our various solder wires solder well into these plated through hole pads.Special notes:  Molex polarized connector foot print use with SKU : PRT-08231 with associated crimp pins and housings. 1MM SMD Version SKU: PRT-10208
GateName_1: G$1; SymbolName_1: CONN_05; DeviceName: NO_SILK; LibraryName: SparkFun-Connectors; DeviceSetName: CONN_05; Package: 1X05_NO_SILK
footprint 1X05_NO_SILK
pins: 1, 2, 3, 4, 5

## CONN_05PTH_LONGPADS
designator J?, comment Multi connection point. Often used as Generic Header-pin footprint for 0.1 inch spaced/style header connectionsOn any of the 0.1 inch spaced packages, you can populate with these: For SCREWTERMINALS and SPRING TERMINALS visit here:This device is also useful as a general connection point to wire up your design to another part of your project. Our various solder wires solder well into these plated through hole pads.Special notes:  Molex polarized connector foot print use with SKU : PRT-08231 with associated crimp pins and housings. 1MM SMD Version SKU: PRT-10208
GateName_1: G$1; SymbolName_1: CONN_05; DeviceName: PTH_LONGPADS; LibraryName: SparkFun-Connectors; DeviceSetName: CONN_05; Package: 1X05_LONGPADS
footprint 1X05_LONGPADS
pins: 1, 2, 3, 4, 5

## CONN_05SCREW
designator J?, comment Multi connection point. Often used as Generic Header-pin footprint for 0.1 inch spaced/style header connectionsOn any of the 0.1 inch spaced packages, you can populate with these: For SCREWTERMINALS and SPRING TERMINALS visit here:This device is also useful as a general connection point to wire up your design to another part of your project. Our various solder wires solder well into these plated through hole pads.Special notes:  Molex polarized connector foot print use with SKU : PRT-08231 with associated crimp pins and housings. 1MM SMD Version SKU: PRT-10208
GateName_1: G$1; SymbolName_1: CONN_05; DeviceName: SCREW; PROD_ID: Combine 8288+8399; LibraryName: SparkFun-Connectors; DeviceSetName: CONN_05; Package: SCREWTERMINAL-3.5MM-5
footprint SCREWTERMINAL-3.5MM-5
pins: 1, 2, 3, 4, 5

## CONN_05SMD
designator J?, comment Multi connection point. Often used as Generic Header-pin footprint for 0.1 inch spaced/style header connectionsOn any of the 0.1 inch spaced packages, you can populate with these: For SCREWTERMINALS and SPRING TERMINALS visit here:This device is also useful as a general connection point to wire up your design to another part of your project. Our various solder wires solder well into these plated through hole pads.Special notes:  Molex polarized connector foot print use with SKU : PRT-08231 with associated crimp pins and housings. 1MM SMD Version SKU: PRT-10208
GateName_1: G$1; SymbolName_1: CONN_05; PROD_ID: CONN-08528; SF_ID: GPS-08288; DeviceName: SMD; LibraryName: SparkFun-Connectors; DeviceSetName: CONN_05; Package: 1X05_1MM
footprint 1X05_1MM
pins: 1, 2, 3, 4, 5

## CONN_05SMD2
designator J?, comment Multi connection point. Often used as Generic Header-pin footprint for 0.1 inch spaced/style header connectionsOn any of the 0.1 inch spaced packages, you can populate with these: For SCREWTERMINALS and SPRING TERMINALS visit here:This device is also useful as a general connection point to wire up your design to another part of your project. Our various solder wires solder well into these plated through hole pads.Special notes:  Molex polarized connector foot print use with SKU : PRT-08231 with associated crimp pins and housings. 1MM SMD Version SKU: PRT-10208
GateName_1: G$1; SymbolName_1: CONN_05; DeviceName: SMD2; LibraryName: SparkFun-Connectors; DeviceSetName: CONN_05; Package: 1X05_1MM_RA
footprint 1X05_1MM_RA
pins: 1, 2, 3, 4, 5

## CONN_05X2NO_SILK
designator J?, comment Multi connection point. Often used as Generic Header-pin footprint for 0.1 inch spaced/style header connectionsFor AVR SPI programming port, see special device with nice symbol: "AVR_SPI_PROG_5x2.dev"You can populate with any combo of single row headers, but if you'd like an exact match, check these:On any of the 0.1 inch spaced packages, you can populate with these:Special note: the shrouded connector mates well with our 5x2 ribbon cables:
GateName_1: G$1; SymbolName_1: CONN_05X2; DeviceName: NO_SILK; LibraryName: SparkFun-Connectors; DeviceSetName: CONN_05X2; Package: 2X5_NOSILK
footprint 2X5_NOSILK
pins: 1, 2, 3, 4, 5, 6, 7, 8, 9, 10

## CONN_05X2PTH
designator J?, comment Multi connection point. Often used as Generic Header-pin footprint for 0.1 inch spaced/style header connectionsFor AVR SPI programming port, see special device with nice symbol: "AVR_SPI_PROG_5x2.dev"You can populate with any combo of single row headers, but if you'd like an exact match, check these:On any of the 0.1 inch spaced packages, you can populate with these:Special note: the shrouded connector mates well with our 5x2 ribbon cables:
GateName_1: G$1; SymbolName_1: CONN_05X2; DeviceName: PTH; PROD_ID: CONN-08499; LibraryName: SparkFun-Connectors; DeviceSetName: CONN_05X2; Package: 2X5; SF_ID: PRT-0778
footprint 2X5
pins: 1, 2, 3, 4, 5, 6, 7, 8, 9, 10

## CONN_05X2RA
designator J?, comment Multi connection point. Often used as Generic Header-pin footprint for 0.1 inch spaced/style header connectionsFor AVR SPI programming port, see special device with nice symbol: "AVR_SPI_PROG_5x2.dev"You can populate with any combo of single row headers, but if you'd like an exact match, check these:On any of the 0.1 inch spaced packages, you can populate with these:Special note: the shrouded connector mates well with our 5x2 ribbon cables:
GateName_1: G$1; SymbolName_1: CONN_05X2; DeviceName: RA; LibraryName: SparkFun-Connectors; DeviceSetName: CONN_05X2; Package: 2X5-RA
footprint 2X5-RA
pins: 1, 2, 3, 4, 5, 6, 7, 8, 9, 10

## CONN_05X2RAF
designator J?, comment Multi connection point. Often used as Generic Header-pin footprint for 0.1 inch spaced/style header connectionsFor AVR SPI programming port, see special device with nice symbol: "AVR_SPI_PROG_5x2.dev"You can populate with any combo of single row headers, but if you'd like an exact match, check these:On any of the 0.1 inch spaced packages, you can populate with these:Special note: the shrouded connector mates well with our 5x2 ribbon cables:
GateName_1: G$1; SymbolName_1: CONN_05X2; DeviceName: RAF; LibraryName: SparkFun-Connectors; DeviceSetName: CONN_05X2; Package: 2X5-RAF
footprint 2X5-RAF
pins: 1, 2, 3, 4, 5, 6, 7, 8, 9, 10

## CONN_05X2SHD
designator J?, comment Multi connection point. Often used as Generic Header-pin footprint for 0.1 inch spaced/style header connectionsFor AVR SPI programming port, see special device with nice symbol: "AVR_SPI_PROG_5x2.dev"You can populate with any combo of single row headers, but if you'd like an exact match, check these:On any of the 0.1 inch spaced packages, you can populate with these:Special note: the shrouded connector mates well with our 5x2 ribbon cables:
GateName_1: G$1; SymbolName_1: CONN_05X2; DeviceName: SHD; PROD_ID: CONN-08671; SF_ID: PRT-08506; LibraryName: SparkFun-Connectors; DeviceSetName: CONN_05X2; Package: 2X5-SHROUDED
footprint 2X5-SHROUDED
pins: 1, 2, 3, 4, 5, 6, 7, 8, 9, 10

## CONN_05X2SHD-NS
designator J?, comment Multi connection point. Often used as Generic Header-pin footprint for 0.1 inch spaced/style header connectionsFor AVR SPI programming port, see special device with nice symbol: "AVR_SPI_PROG_5x2.dev"You can populate with any combo of single row headers, but if you'd like an exact match, check these:On any of the 0.1 inch spaced packages, you can populate with these:Special note: the shrouded connector mates well with our 5x2 ribbon cables:
GateName_1: G$1; SymbolName_1: CONN_05X2; DeviceName: SHD-NS; PROD_ID: CONN-08671; SF_ID: PRT-08506; LibraryName: SparkFun-Connectors; DeviceSetName: CONN_05X2; Package: 2X5-SHROUDED-NS
footprint 2X5-SHROUDED-NS
pins: 1, 2, 3, 4, 5, 6, 7, 8, 9, 10

## CONN_05X2SHD_LOCK
designator J?, comment Multi connection point. Often used as Generic Header-pin footprint for 0.1 inch spaced/style header connectionsFor AVR SPI programming port, see special device with nice symbol: "AVR_SPI_PROG_5x2.dev"You can populate with any combo of single row headers, but if you'd like an exact match, check these:On any of the 0.1 inch spaced packages, you can populate with these:Special note: the shrouded connector mates well with our 5x2 ribbon cables:
GateName_1: G$1; SymbolName_1: CONN_05X2; DeviceName: SHD_LOCK; PROD_ID: CONN-08671; SF_ID: PRT-08506; LibraryName: SparkFun-Connectors; DeviceSetName: CONN_05X2; Package: 2X5-SHROUDED_LOCK
footprint 2X5-SHROUDED_LOCK
pins: 1, 2, 3, 4, 5, 6, 7, 8, 9, 10

## CONN_05X2SHD_SMD
designator J?, comment Multi connection point. Often used as Generic Header-pin footprint for 0.1 inch spaced/style header connectionsFor AVR SPI programming port, see special device with nice symbol: "AVR_SPI_PROG_5x2.dev"You can populate with any combo of single row headers, but if you'd like an exact match, check these:On any of the 0.1 inch spaced packages, you can populate with these:Special note: the shrouded connector mates well with our 5x2 ribbon cables:
GateName_1: G$1; SymbolName_1: CONN_05X2; DeviceName: SHD_SMD; PROD_ID: CONN-09508; LibraryName: SparkFun-Connectors; DeviceSetName: CONN_05X2; Package: 2X5-SHROUDED_SMD
footprint 2X5-SHROUDED_SMD
pins: 1, 2, 3, 4, 5, 6, 7, 8, 9, 10

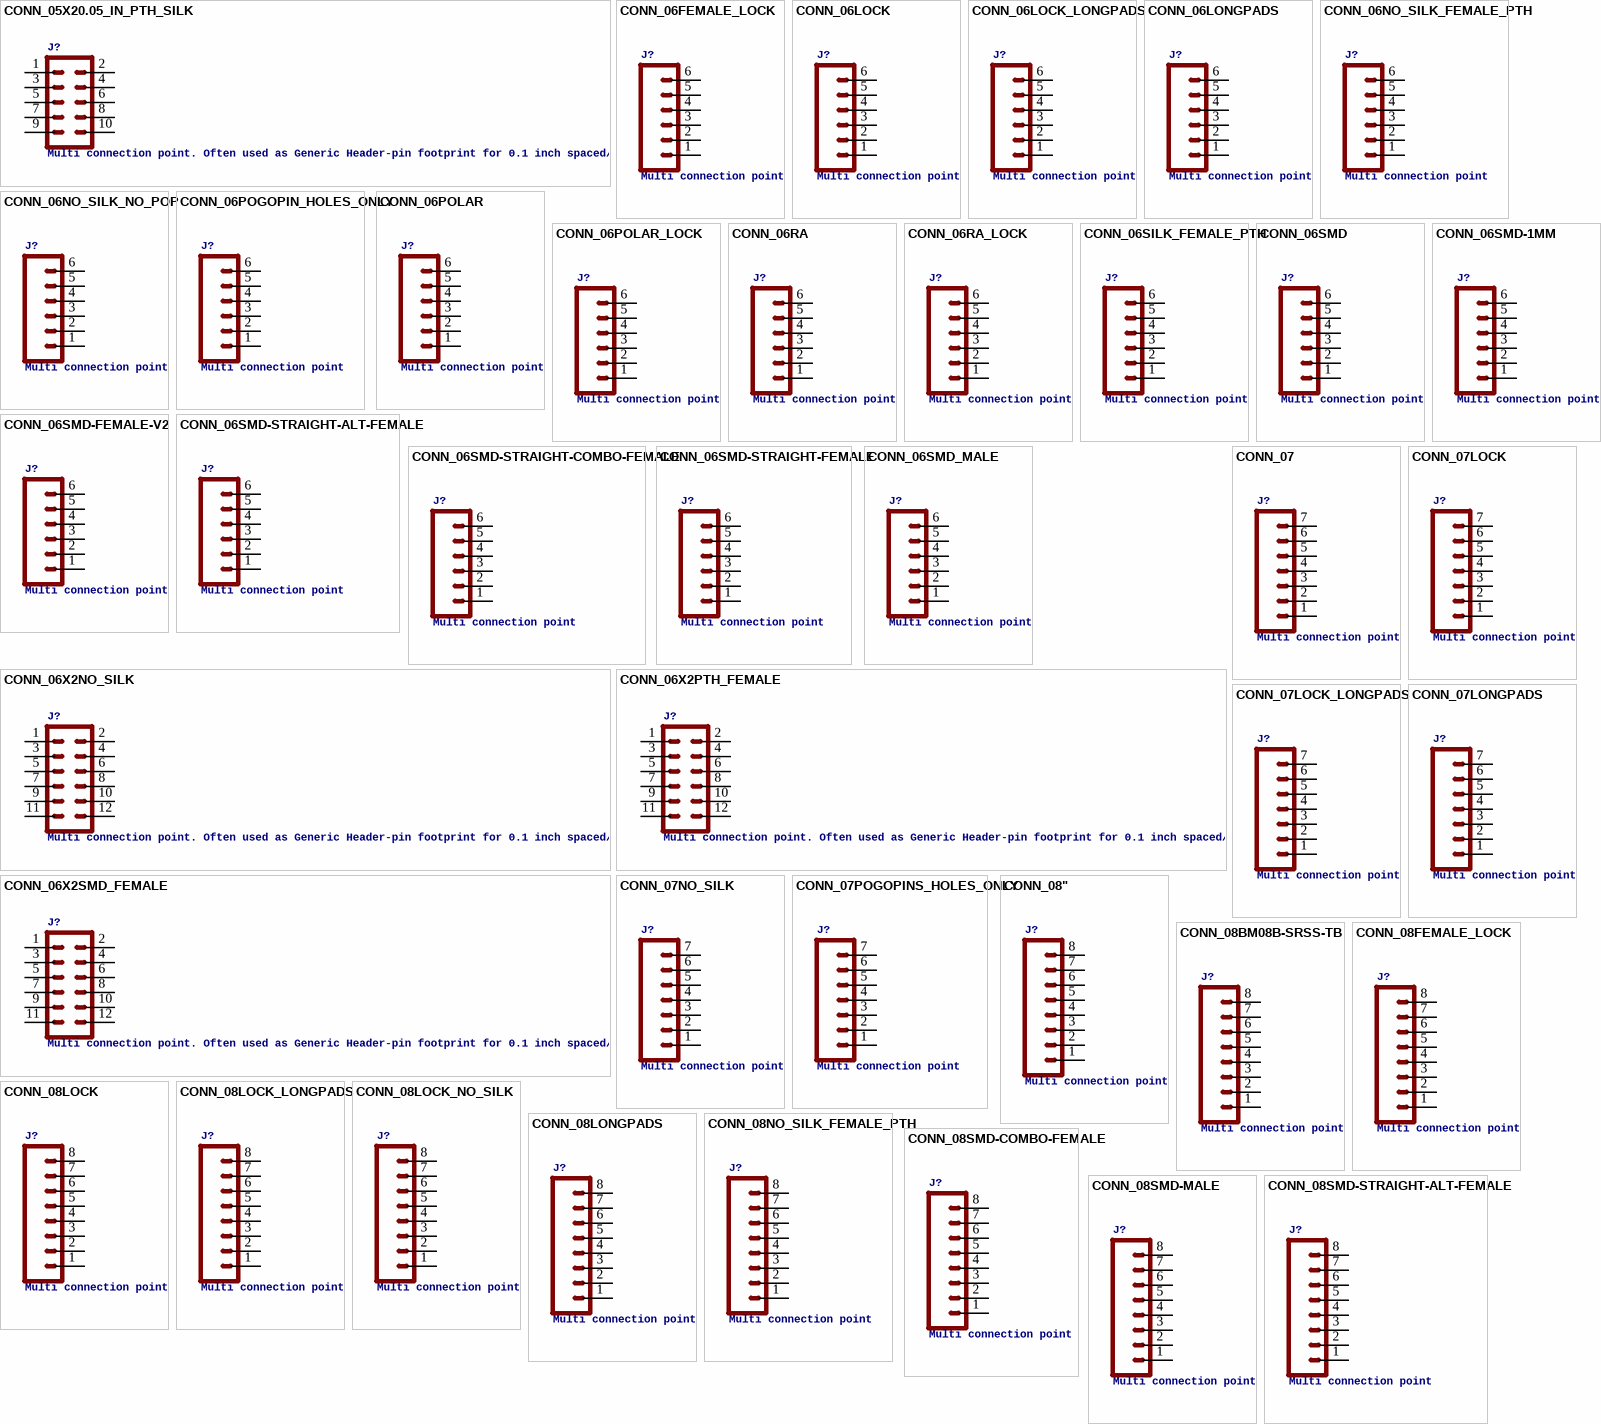
[diagram p6: symbols CONN_05X20.05_IN_PTH_SILK to CONN_08SMD-STRAIGHT-ALT-FEMALE]

## CONN_05X20.05_IN_PTH_SILK
designator J?, comment Multi connection point. Often used as Generic Header-pin footprint for 0.1 inch spaced/style header connectionsFor AVR SPI programming port, see special device with nice symbol: "AVR_SPI_PROG_5x2.dev"You can populate with any combo of single row headers, but if you'd like an exact match, check these:On any of the 0.1 inch spaced packages, you can populate with these:Special note: the shrouded connector mates well with our 5x2 ribbon cables:
GateName_1: G$1; SymbolName_1: CONN_05X2; DeviceName: 0.05_IN_PTH_SILK; LibraryName: SparkFun-Connectors; DeviceSetName: CONN_05X2; Package: 2X5_PTH_SILK_.05
footprint 2X5_PTH_SILK_.05
pins: 1, 2, 3, 4, 5, 6, 7, 8, 9, 10

## CONN_06FEMALE_LOCK
designator J?, comment Multi connection point. Often used as Generic Header-pin footprint for 0.1 inch spaced/style header connectionsOn any of the 0.1 inch spaced packages, you can populate with these: For SCREWTERMINALS and SPRING TERMINALS visit here:This device is also useful as a general connection point to wire up your design to another part of your project. Our various solder wires solder well into these plated through hole pads.
GateName_1: G$1; SymbolName_1: CONN_06; DeviceName: FEMALE_LOCK; LibraryName: SparkFun-Connectors; DeviceSetName: CONN_06; Package: 1X06_FEMALE_LOCK.010
footprint 1X06_FEMALE_LOCK.010
pins: 1, 2, 3, 4, 5, 6

## CONN_06LOCK
designator J?, comment Multi connection point. Often used as Generic Header-pin footprint for 0.1 inch spaced/style header connectionsOn any of the 0.1 inch spaced packages, you can populate with these: For SCREWTERMINALS and SPRING TERMINALS visit here:This device is also useful as a general connection point to wire up your design to another part of your project. Our various solder wires solder well into these plated through hole pads.
GateName_1: G$1; SymbolName_1: CONN_06; DeviceName: LOCK; LibraryName: SparkFun-Connectors; DeviceSetName: CONN_06; Package: 1X06_LOCK
footprint 1X06_LOCK
pins: 1, 2, 3, 4, 5, 6

## CONN_06LOCK_LONGPADS
designator J?, comment Multi connection point. Often used as Generic Header-pin footprint for 0.1 inch spaced/style header connectionsOn any of the 0.1 inch spaced packages, you can populate with these: For SCREWTERMINALS and SPRING TERMINALS visit here:This device is also useful as a general connection point to wire up your design to another part of your project. Our various solder wires solder well into these plated through hole pads.
GateName_1: G$1; SymbolName_1: CONN_06; DeviceName: LOCK_LONGPADS; LibraryName: SparkFun-Connectors; DeviceSetName: CONN_06; Package: 1X06_LOCK_LONGPADS
footprint 1X06_LOCK_LONGPADS
pins: 1, 2, 3, 4, 5, 6

## CONN_06LONGPADS
designator J?, comment Multi connection point. Often used as Generic Header-pin footprint for 0.1 inch spaced/style header connectionsOn any of the 0.1 inch spaced packages, you can populate with these: For SCREWTERMINALS and SPRING TERMINALS visit here:This device is also useful as a general connection point to wire up your design to another part of your project. Our various solder wires solder well into these plated through hole pads.
GateName_1: G$1; SymbolName_1: CONN_06; DeviceName: LONGPADS; LibraryName: SparkFun-Connectors; DeviceSetName: CONN_06; Package: 1X06_LONGPADS
footprint 1X06_LONGPADS
pins: 1, 2, 3, 4, 5, 6

## CONN_06NO_SILK_FEMALE_PTH
designator J?, comment Multi connection point. Often used as Generic Header-pin footprint for 0.1 inch spaced/style header connectionsOn any of the 0.1 inch spaced packages, you can populate with these: For SCREWTERMINALS and SPRING TERMINALS visit here:This device is also useful as a general connection point to wire up your design to another part of your project. Our various solder wires solder well into these plated through hole pads.
GateName_1: G$1; SymbolName_1: CONN_06; DeviceName: NO_SILK_FEMALE_PTH; PROD_ID: CONN-08437; LibraryName: SparkFun-Connectors; DeviceSetName: CONN_06; Package: 1X06_NO_SILK
footprint 1X06_NO_SILK
pins: 1, 2, 3, 4, 5, 6